# Altium footprint library 74hc595d.PcbLib: 4 footprints
Each footprint in its own frame and in the unit in brackets; x right, y up, seen from the top. Pads: shape width x height; smd on the part's side, far side on the other; paste and mask are expansions set on the pad; w line width, h text height; cw(c..) or ccw(c..) is an arc to the next point about the centre after c.
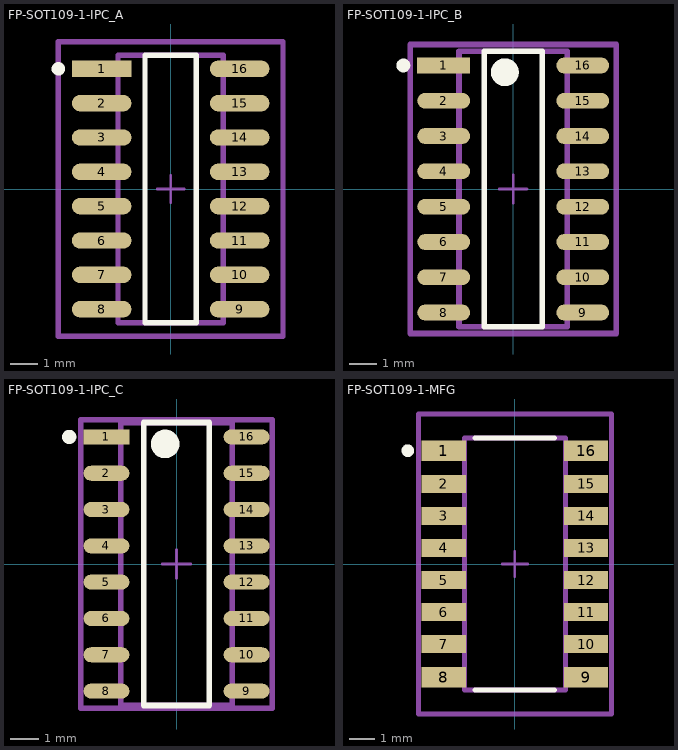
[diagram p0: the footprints below, top view; thin cyan lines are the x and y axes]

## FP-SOT109-1-IPC_A [mm]
pads (16):
  rect 2.204x0.608 smd paste+0 mask+0: 1(-2.551,4.445)
  rrect100% 2.204x0.608 smd paste+0 mask+0: 2(-2.551,3.175) 3(-2.551,1.905) 4(-2.551,0.635) 5(-2.551,-0.635) 6(-2.551,-1.905) 7(-2.551,-3.175) 8(-2.551,-4.445) 9(2.551,-4.445) 10(2.551,-3.175) 11(2.551,-1.905) 12(2.551,-0.635) 13(2.551,0.635) 14(2.551,1.905) 15(2.551,3.175) 16(2.551,4.445)
Top Overlay:
  circle w0.25: c-4.153,4.445 r0.125
  lines w0.2: -0.949,-4.95 0.949,-4.95 0.949,4.95 -0.949,4.95 -0.949,-4.95
Top Assembly:
  lines w0.2: -4.153,-5.45 4.153,-5.45 4.153,5.45 -4.153,5.45 -4.153,-5.45
  text ".Designator" at 0,0.188 h1
Top 3D Body:
  lines w0.2: -1.95,-4.95 1.95,-4.95 1.95,4.95 -1.95,4.95 -1.95,-4.95
Top Courtyard:
  lines w0.2: -4.153,-5.45 4.153,-5.45 4.153,5.45 -4.153,5.45 -4.153,-5.45
Top Component Center:
  lines w0.1: -0.5,0 0.5,0 ; 0,-0.5 0,0.5
3D body "IC_Nexperia_74HCT138D_653_eec.STEP": height 0.25, standoff 0, extent -4.153,-5.45 4.153,5.45

## FP-SOT109-1-IPC_B [mm]
pads (16):
  rect 1.904x0.568 smd paste+0 mask+0: 1(-2.501,4.445)
  rrect100% 1.904x0.568 smd paste+0 mask+0: 2(-2.501,3.175) 3(-2.501,1.905) 4(-2.501,0.635) 5(-2.501,-0.635) 6(-2.501,-1.905) 7(-2.501,-3.175) 8(-2.501,-4.445) 9(2.501,-4.445) 10(2.501,-3.175) 11(2.501,-1.905) 12(2.501,-0.635) 13(2.501,0.635) 14(2.501,1.905) 15(2.501,3.175) 16(2.501,4.445)
Top Overlay:
  circle w0.5: c-0.299,4.2 r0.25
  circle w0.25: c-3.953,4.445 r0.125
  lines w0.2: -1.049,-4.95 1.049,-4.95 1.049,4.95 -1.049,4.95 -1.049,-4.95
Top Assembly:
  lines w0.2: -3.703,-5.2 3.703,-5.2 3.703,5.2 -3.703,5.2 -3.703,-5.2
  text ".Designator" at 0,0.188 h1
Top 3D Body:
  lines w0.2: -1.95,-4.95 1.95,-4.95 1.95,4.95 -1.95,4.95 -1.95,-4.95
Top Courtyard:
  lines w0.2: -3.703,-5.2 3.703,-5.2 3.703,5.2 -3.703,5.2 -3.703,-5.2
Top Component Center:
  lines w0.1: -0.5,0 0.5,0 ; 0,-0.5 0,0.5
3D body "IC_Nexperia_74HCT138D_653_eec.STEP": height 0.25, standoff 0, extent -3.703,-5.2 3.703,5.2

## FP-SOT109-1-IPC_C [mm]
pads (16):
  rect 1.604x0.528 smd paste+0 mask+0: 1(-2.451,4.445)
  rrect100% 1.604x0.528 smd paste+0 mask+0: 2(-2.451,3.175) 3(-2.451,1.905) 4(-2.451,0.635) 5(-2.451,-0.635) 6(-2.451,-1.905) 7(-2.451,-3.175) 8(-2.451,-4.445) 9(2.451,-4.445) 10(2.451,-3.175) 11(2.451,-1.905) 12(2.451,-0.635) 13(2.451,0.635) 14(2.451,1.905) 15(2.451,3.175) 16(2.451,4.445)
Top Overlay:
  circle w0.5: c-0.399,4.2 r0.25
  circle w0.25: c-3.753,4.445 r0.125
  lines w0.2: -1.149,-4.95 1.149,-4.95 1.149,4.95 -1.149,4.95 -1.149,-4.95
Top Assembly:
  lines w0.2: -3.353,-5.05 3.353,-5.05 3.353,5.05 -3.353,5.05 -3.353,-5.05
  text ".Designator" at 0,0.188 h1
Top 3D Body:
  lines w0.2: -1.95,-4.95 1.95,-4.95 1.95,4.95 -1.95,4.95 -1.95,-4.95
Top Courtyard:
  lines w0.2: -3.353,-5.05 3.353,-5.05 3.353,5.05 -3.353,5.05 -3.353,-5.05
Top Component Center:
  lines w0.1: -0.5,0 0.5,0 ; 0,-0.5 0,0.5
3D body "IC_Nexperia_74HCT138D_653_eec.STEP": height 0.25, standoff 0, extent -3.353,-5.05 3.353,5.05

## FP-SOT109-1-MFG [mm]
pads (16):
  rect 1.75x0.8 smd paste-1000 mask+0: 1(-2.825,4.495) 8(-2.825,-4.495) 9(2.825,-4.495) 16(2.825,4.495)
  rect 1.75x0.7 smd paste-1000 mask+0: 2(-2.825,3.175) 3(-2.825,1.905) 4(-2.825,0.635) 5(-2.825,-0.635) 6(-2.825,-1.905) 7(-2.825,-3.175) 10(2.825,-3.175) 11(2.825,-1.905) 12(2.825,-0.635) 13(2.825,0.635) 14(2.825,1.905) 15(2.825,3.175)
Top Overlay:
  circle w0.25: c-4.25,4.495 r0.125
  lines w0.2: -1.575,-5 1.575,-5 ; -1.575,5 1.575,5
Top Paste:
  rectangle: -3.65,4.145 -2,4.845
  rectangle: -3.65,2.875 -2,3.475
  rectangle: -3.65,1.605 -2,2.205
  rectangle: -3.65,0.335 -2,0.935
  rectangle: -3.65,-0.935 -2,-0.335
  rectangle: -3.65,-2.205 -2,-1.605
  rectangle: -3.65,-3.475 -2,-2.875
  rectangle: -3.65,-4.845 -2,-4.145
  rectangle: 2,-4.845 3.65,-4.145
  rectangle: 2,-3.475 3.65,-2.875
  rectangle: 2,-2.205 3.65,-1.605
  rectangle: 2,-0.935 3.65,-0.335
  rectangle: 2,0.335 3.65,0.935
  rectangle: 2,1.605 3.65,2.205
  rectangle: 2,2.875 3.65,3.475
  rectangle: 2,4.145 3.65,4.845
Top Assembly:
  lines w0.2: -3.825,-5.95 3.825,-5.95 3.825,5.95 -3.825,5.95 -3.825,-5.95
  text ".Designator" at 0,0.188 h1
Top 3D Body:
  lines w0.2: -2,-5 2,-5 2,5 -2,5 -2,-5
Top Courtyard:
  lines w0.2: -3.825,-5.95 3.825,-5.95 3.825,5.95 -3.825,5.95 -3.825,-5.95
Top Component Center:
  lines w0.1: -0.5,0 0.5,0 ; 0,-0.5 0,0.5
3D body "IC_Nexperia_74HCT138D_653_eec.STEP": height 0.25, standoff 0, extent -3.825,-5.95 3.825,5.95